# Altium schematic symbol library NRP-02-C-05DH.SchLib: 1 symbol
Pins are listed as number, name and electrical type; pins without a type are passive.

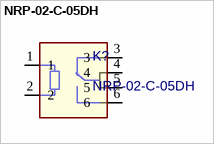
[diagram p0: symbol NRP-02-C-05DH]

## NRP-02-C-05DH
designator K?
pins: 1, 2, 3, 4, 5, 6